# Altium footprint library VIPER_BP_CARD_HOLDER.PcbLib: 1 footprints
Each footprint in its own frame and in the unit in brackets; x right, y up, seen from the top. Pads: shape width x height; smd on the part's side, far side on the other; paste and mask are expansions set on the pad; w line width, h text height; cw(c..) or ccw(c..) is an arc to the next point about the centre after c.
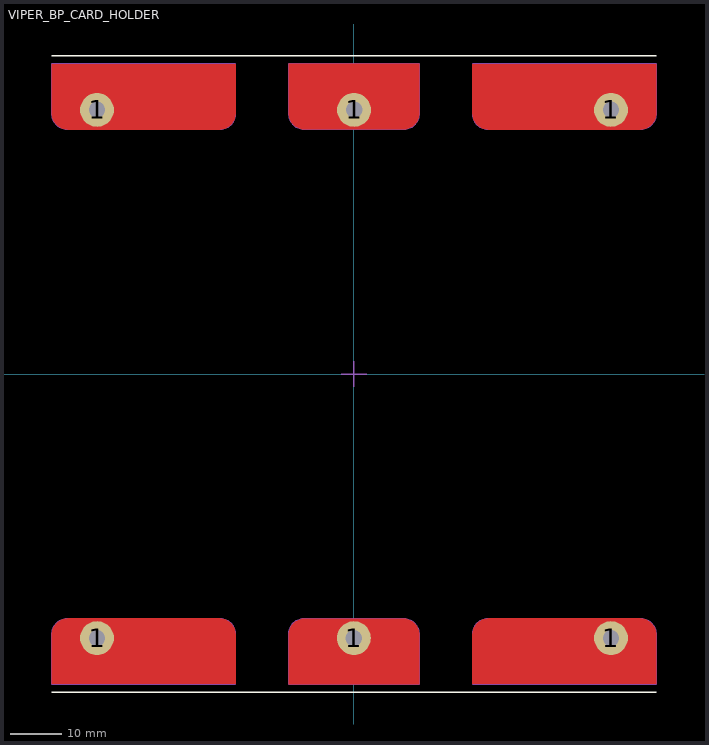
[diagram p0: the footprint, top view; thin cyan lines are the x and y axes]

## VIPER_BP_CARD_HOLDER [mil]
pads (12):
  round 259.84 hole 125.98 mask+0: 1(-1968.5,-2022.84) 1(-1968.5,2022.84) 1(-0.5,-2022.84) 1(0.5,2022.84) 1(1968.5,-2022.84) 1(1968.5,2022.84)
  round 1 smd paste-99999 mask+0: 1(-1611,-2123.59) 1(-1611,2123.59) 1(-0.04,-2123.98) 1(0.04,2123.98) 1(1611,-2123.59) 1(1611,2123.59)
Top Layer:
  region: 499.96,-1998.23 499.96,-1993.32 499.19,-1983.53 497.65,-1973.83 495.36,-1964.28 492.32,-1954.93 488.56,-1945.86 484.1,-1937.11 478.97,-1928.73 473.2,-1920.79 466.82,-1913.32 459.87,-1906.37 452.4,-1899.99 444.46,-1894.22 436.08,-1889.09 427.33,-1884.63 418.25,-1880.87 408.91,-1877.83 399.36,-1875.54 389.66,-1874 379.87,-1873.23 374.96,-1873.23 -375.04,-1873.23 -379.95,-1873.23 -389.75,-1874 -399.45,-1875.54 -409,-1877.83 -418.34,-1880.87 -427.42,-1884.63 -436.17,-1889.09 -444.54,-1894.22 -452.49,-1899.99 -459.96,-1906.37 -466.9,-1913.32 -473.28,-1920.79 -479.06,-1928.73 -484.19,-1937.11 -488.65,-1945.86 -492.41,-1954.93 -495.44,-1964.28 -497.74,-1973.83 -499.27,-1983.53 -500.04,-1993.32 -500.04,-1998.23 -500.04,-2374.73 499.96,-2374.73
  region: -499.96,1998.23 -499.96,1993.32 -499.19,1983.53 -497.65,1973.83 -495.36,1964.28 -492.32,1954.93 -488.56,1945.86 -484.1,1937.11 -478.97,1928.73 -473.2,1920.79 -466.82,1913.32 -459.87,1906.37 -452.4,1899.99 -444.46,1894.22 -436.08,1889.09 -427.33,1884.63 -418.25,1880.87 -408.91,1877.83 -399.36,1875.54 -389.66,1874 -379.87,1873.23 -374.96,1873.23 375.04,1873.23 379.95,1873.23 389.75,1874 399.45,1875.54 409,1877.83 418.34,1880.87 427.42,1884.63 436.17,1889.09 444.54,1894.22 452.49,1899.99 459.96,1906.37 466.9,1913.32 473.28,1920.79 479.06,1928.73 484.19,1937.11 488.65,1945.86 492.41,1954.93 495.44,1964.28 497.74,1973.83 499.27,1983.53 500.04,1993.32 500.04,1998.23 500.04,2374.73 -499.96,2374.73
  region: -2189.5,-1872.84 -2194.41,-1872.84 -2204.2,-1873.61 -2213.91,-1875.15 -2223.46,-1877.44 -2232.8,-1880.47 -2241.87,-1884.23 -2250.62,-1888.69 -2259,-1893.82 -2266.95,-1899.6 -2274.42,-1905.98 -2281.36,-1912.92 -2287.74,-1920.39 -2293.51,-1928.34 -2298.65,-1936.71 -2303.11,-1945.47 -2306.86,-1954.54 -2309.9,-1963.88 -2312.19,-1973.43 -2313.73,-1983.13 -2314.5,-1992.93 -2314.5,-1997.84 -2314.5,-2374.34 -907.5,-2374.34 -907.5,-1997.84 -907.5,-1992.93 -908.27,-1983.13 -909.81,-1973.43 -912.1,-1963.88 -915.14,-1954.54 -918.89,-1945.47 -923.35,-1936.71 -928.49,-1928.34 -934.26,-1920.39 -940.64,-1912.92 -947.58,-1905.98 -955.05,-1899.6 -963,-1893.82 -971.38,-1888.69 -980.13,-1884.23 -989.2,-1880.47 -998.54,-1877.44 -1008.09,-1875.15 -1017.8,-1873.61 -1027.59,-1872.84 -1032.5,-1872.84
  region: 2189.5,-1872.84 2194.41,-1872.84 2204.2,-1873.61 2213.91,-1875.15 2223.46,-1877.44 2232.8,-1880.47 2241.87,-1884.23 2250.62,-1888.69 2259,-1893.82 2266.95,-1899.6 2274.42,-1905.98 2281.36,-1912.92 2287.74,-1920.39 2293.51,-1928.34 2298.65,-1936.71 2303.11,-1945.47 2306.86,-1954.54 2309.9,-1963.88 2312.19,-1973.43 2313.73,-1983.13 2314.5,-1992.93 2314.5,-1997.84 2314.5,-2374.34 907.5,-2374.34 907.5,-1997.84 907.5,-1992.93 908.27,-1983.13 909.81,-1973.43 912.1,-1963.88 915.14,-1954.54 918.89,-1945.47 923.35,-1936.71 928.49,-1928.34 934.26,-1920.39 940.64,-1912.92 947.58,-1905.98 955.05,-1899.6 963,-1893.82 971.38,-1888.69 980.13,-1884.23 989.2,-1880.47 998.54,-1877.44 1008.1,-1875.15 1017.8,-1873.61 1027.59,-1872.84 1032.5,-1872.84
  region: 2189.5,1872.84 2194.41,1872.84 2204.2,1873.61 2213.91,1875.15 2223.46,1877.44 2232.8,1880.47 2241.87,1884.23 2250.62,1888.69 2259,1893.82 2266.95,1899.6 2274.42,1905.98 2281.36,1912.92 2287.74,1920.39 2293.51,1928.34 2298.65,1936.71 2303.11,1945.47 2306.86,1954.54 2309.9,1963.88 2312.19,1973.43 2313.73,1983.13 2314.5,1992.93 2314.5,1997.84 2314.5,2374.34 907.5,2374.34 907.5,1997.84 907.5,1992.93 908.27,1983.13 909.81,1973.43 912.1,1963.88 915.14,1954.54 918.89,1945.47 923.35,1936.71 928.49,1928.34 934.26,1920.39 940.64,1912.92 947.58,1905.98 955.05,1899.6 963,1893.82 971.38,1888.69 980.13,1884.23 989.2,1880.47 998.54,1877.44 1008.1,1875.15 1017.8,1873.61 1027.59,1872.84 1032.5,1872.84
  region: -2189.5,1872.84 -2194.41,1872.84 -2204.2,1873.61 -2213.91,1875.15 -2223.46,1877.44 -2232.8,1880.47 -2241.87,1884.23 -2250.62,1888.69 -2259,1893.82 -2266.95,1899.6 -2274.42,1905.98 -2281.36,1912.92 -2287.74,1920.39 -2293.51,1928.34 -2298.65,1936.71 -2303.11,1945.47 -2306.86,1954.54 -2309.9,1963.88 -2312.19,1973.43 -2313.73,1983.13 -2314.5,1992.93 -2314.5,1997.84 -2314.5,2374.34 -907.5,2374.34 -907.5,1997.84 -907.5,1992.93 -908.27,1983.13 -909.81,1973.43 -912.1,1963.88 -915.14,1954.54 -918.89,1945.47 -923.35,1936.71 -928.49,1928.34 -934.26,1920.39 -940.64,1912.92 -947.58,1905.98 -955.05,1899.6 -963,1893.82 -971.38,1888.69 -980.13,1884.23 -989.2,1880.47 -998.54,1877.44 -1008.09,1875.15 -1017.8,1873.61 -1027.59,1872.84 -1032.5,1872.84
Top Overlay:
  lines w10: -2314.96,-2437.23 2315.04,-2437.23 ; -2314.96,2437.23 2315.04,2437.23
3D Body:
  circle w7.87: c-0.5,-2022.84 r129.92
  circle w7.87: c-0.5,-2022.84 r62.99
  circle w7.87: c1968.5,-2022.84 r129.92
  circle w7.87: c1968.5,-2022.84 r62.99
  circle w7.87: c-1968.5,-2022.84 r129.92
  circle w7.87: c-1968.5,-2022.84 r62.99
  circle w7.87: c1968.5,2022.84 r129.92
  circle w7.87: c1968.5,2022.84 r62.99
  circle w7.87: c0.5,2022.84 r129.92
  circle w7.87: c0.5,2022.84 r62.99
  circle w7.87: c-1968.5,2022.84 r129.92
  circle w7.87: c-1968.5,2022.84 r62.99
  lines w10: -2314.96,-2374.73 -907.96,-2374.73 -907.96,-1998.23 ccw(c-1032.96,-1998.23) -1032.96,-1873.23 -2189.96,-1873.23 ccw(c-2189.96,-1998.23) -2314.96,-1998.23 -2314.96,-2374.73 ; -2314.96,1998.23 ccw(c-2189.96,1998.23) -2189.96,1873.23 -1032.96,1873.23 ccw(c-1032.96,1998.23) -907.96,1998.23 -907.96,2374.73 -2314.96,2374.73 -2314.96,1998.23 ; -500.96,-2374.73 -500.96,-1998.23 cw(c-375.96,-1998.23) -375.96,-1873.23 374.04,-1873.23 cw(c374.04,-1998.23) 499.04,-1998.23 499.04,-2374.73 -500.96,-2374.73 ; -499.96,1998.23 ccw(c-374.96,1998.23) -374.96,1873.23 375.04,1873.23 ccw(c375.04,1998.23) 500.04,1998.23 500.04,2374.73 -499.96,2374.73 -499.96,1998.23 ; 907.96,-2374.73 2314.96,-2374.73 2314.96,-1998.23 ccw(c2189.96,-1998.23) 2189.96,-1873.23 1032.96,-1873.23 ccw(c1032.96,-1998.23) 907.96,-1998.23 907.96,-2374.73 ; 907.96,1998.23 ccw(c1032.96,1998.23) 1032.96,1873.23 2189.96,1873.23 ccw(c2189.96,1998.23) 2314.96,1998.23 2314.96,2374.73 907.96,2374.73 907.96,1998.23
Center Cross:
  lines w10: -98.43,0 0,0 ; 0,-98.43 0,0 ; 0,98.43 0,0 ; 98.43,0 0,0
3D body "Viper Assembly 20240120 v2.STEP": height 5125.5, standoff 0.5, extent -2436.56,-2899.99 2314.97,2900.01
3D body "M3x6.step": height 172.74, standoff -173.72, extent -108.77,-2131.11 107.76,-1914.58
3D body "M3x6.step": height 172.74, standoff -173.72, extent 1860.23,-2131.11 2076.76,-1914.58
3D body "M3x6.step": height 172.74, standoff -173.72, extent -2076.77,-2131.11 -1860.24,-1914.58
3D body "M3x6.step": height 172.74, standoff -173.72, extent 1860.24,1914.58 2076.77,2131.11
3D body "M3x6.step": height 172.74, standoff -173.72, extent -107.76,1914.58 108.77,2131.11
3D body "M3x6.step": height 172.74, standoff -173.72, extent -2076.76,1914.58 -1860.23,2131.11